# Altium footprint library PCB_国产飞控 led端子 copy copy.PcbLib: 28 footprints (part 1 of 2)
Each footprint in its own frame and in the unit in brackets; x right, y up, seen from the top. Pads: shape width x height; smd on the part's side, far side on the other; paste and mask are expansions set on the pad; w line width, h text height; cw(c..) or ccw(c..) is an arc to the next point about the centre after c.
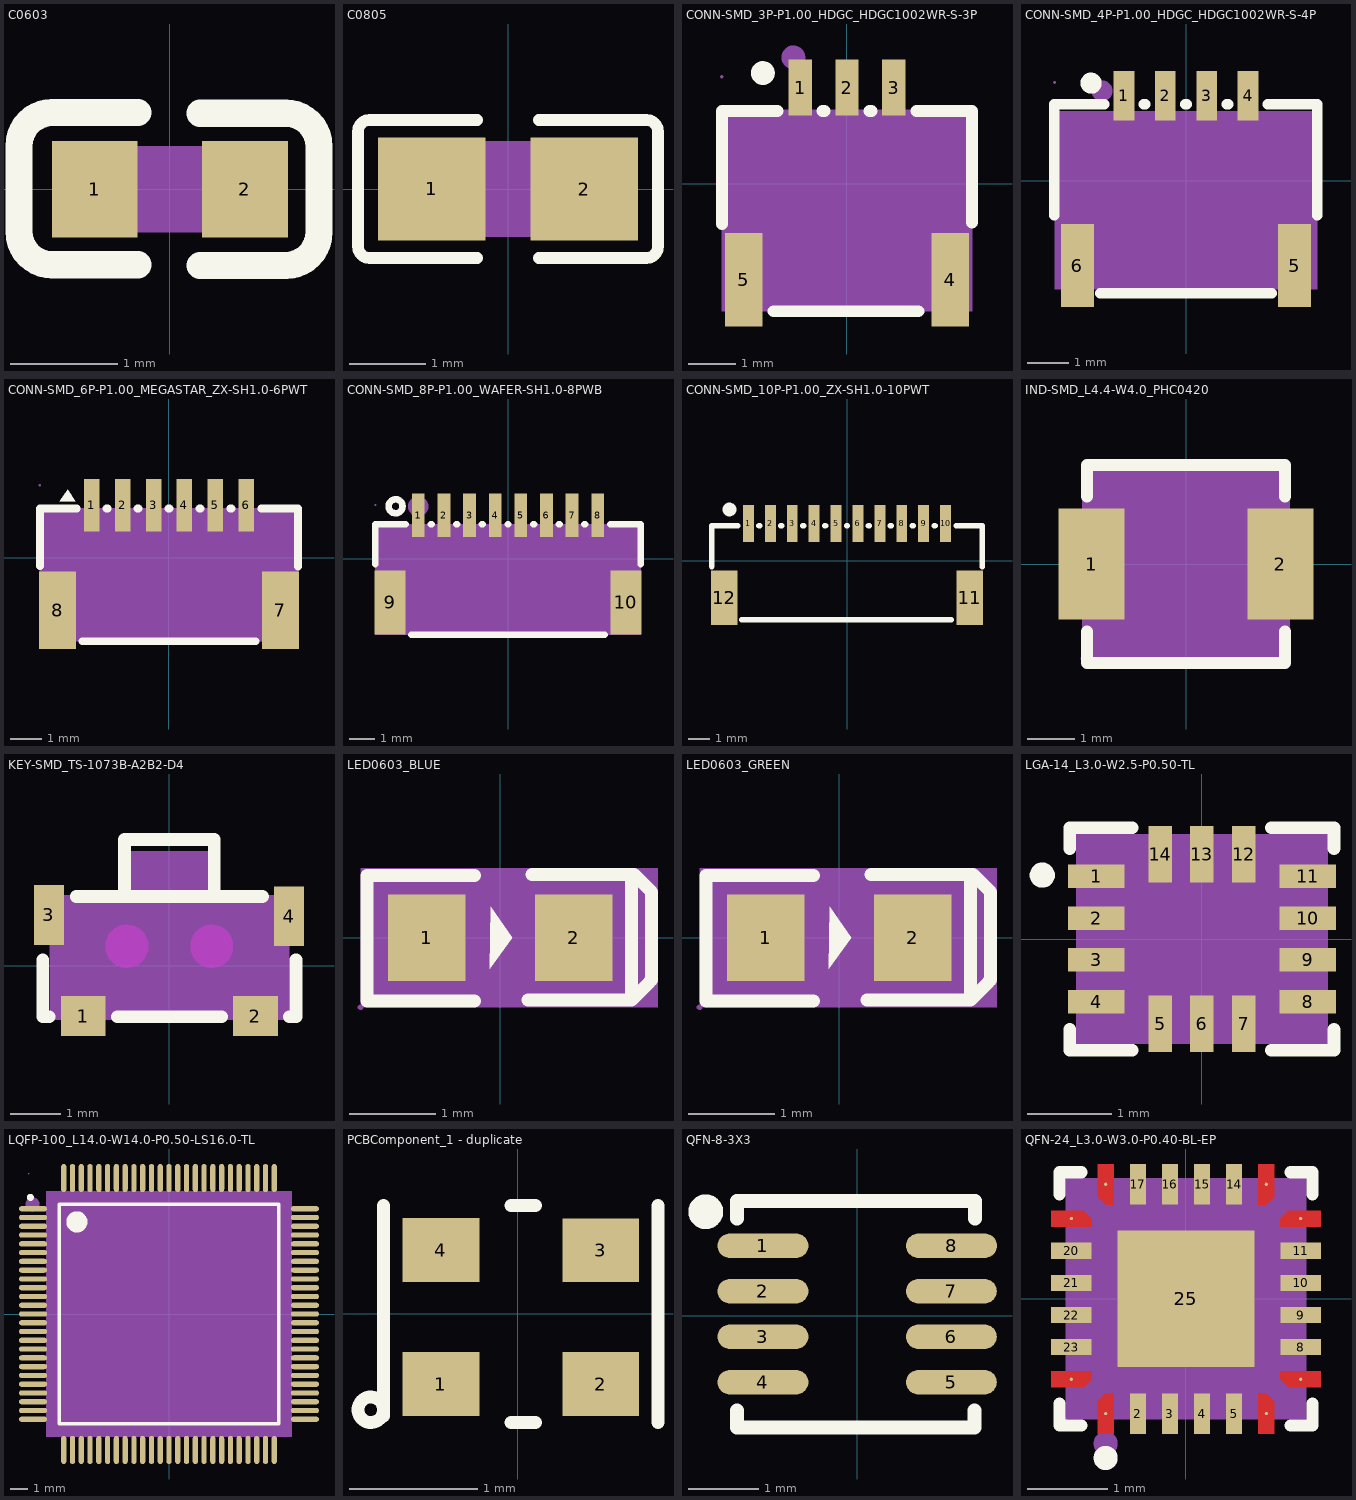
[diagram p0: the footprints below, top view; thin cyan lines are the x and y axes]

## C0603 [mm]
pads (2):
  rect 0.8x0.9 smd paste+0 mask+0.051: 1(-0.7,0) 2(0.7,0)
Top Overlay:
  lines w0.254: -0.296,-0.704 -1.096,-0.704 cw(c-1.096,-0.394) -1.406,-0.394 -1.405,0.406 cw(c-1.096,0.406) -1.096,0.715 -0.296,0.715 ; 0.28,-0.71 1.08,-0.71 ccw(c1.08,-0.4) 1.39,-0.4 1.39,0.4 ccw(c1.08,0.4) 1.08,0.71 0.28,0.71
Mechanical 9:
  region: -0.8,-0.4 -0.8,0.4 0.8,0.4 0.8,-0.4
Mechanical 11:
  region: -0.77,-0.4 -0.77,-0.412 -0.788,-0.43 -0.813,-0.43 -0.83,-0.412 -0.83,-0.4 -0.83,-0.388 -0.813,-0.37 -0.788,-0.37 -0.77,-0.388 -0.77,-0.4
Mechanical 12:
  region: -0.8,-0.4 -0.8,0.4 -0.5,0.4 -0.5,-0.4
  region: 0.8,-0.4 0.8,0.4 0.5,0.4 0.5,-0.4

## C0805 [mm]
pads (2):
  rect 1.41x1.35 smd paste-100 mask+0.051: 1(-1,0) 2(1,0)
Top Overlay:
  lines w0.152: -0.401,-0.904 -1.811,-0.904 cw(c-1.811,-0.751) -1.964,-0.751 -1.964,0.751 cw(c-1.811,0.751) -1.811,0.904 -0.401,0.904 ; 0.401,-0.904 1.811,-0.904 ccw(c1.811,-0.751) 1.964,-0.751 1.964,0.751 ccw(c1.811,0.751) 1.811,0.904 0.401,0.904
Top Paste:
  region: 0.475,-0.62 0.475,-0.2 0.92,-0.2 0.92,0.25 0.48,0.25 0.475,0.66 0.525,0.71 1.675,0.71 1.725,0.66 1.725,-0.62 1.675,-0.67 0.525,-0.67
  region: -1.675,-0.62 -1.675,0.66 -1.625,0.71 -0.475,0.71 -0.425,0.66 -0.42,0.25 -0.87,0.25 -0.87,-0.2 -0.43,-0.2 -0.425,-0.62 -0.475,-0.67 -1.625,-0.67
Mechanical 9:
  region: -1,-0.625 -1,0.625 1,0.625 1,-0.625
Mechanical 11:
  region: -1,-0.595 -1.012,-0.595 -1.03,-0.613 -1.03,-0.638 -1.012,-0.655 -1,-0.655 -0.988,-0.655 -0.97,-0.638 -0.97,-0.613 -0.988,-0.595 -1,-0.595
Mechanical 12:
  region: 1,0.625 1,-0.625 0.5,-0.625 0.5,0.625
  region: -1,-0.625 -1,0.625 -0.5,0.625 -0.5,-0.625

## CONN-SMD_3P-P1.00_HDGC_HDGC1002WR-S-3P [mm]
pads (5):
  rect 0.5x1.2 smd paste+0 mask+0.05: 1(-1,2.05) 2(0,2.05) 3(1,2.05)
  rect 0.8x2 smd paste+0 mask+0.05: 4(2.2,-2.05) 5(-2.2,-2.05)
Top Overlay:
  circle w0.254: c-1.794,2.358 r0.127
  lines w0.254: -2.667,-0.862 -2.667,1.551 -1.481,1.551 ; -1.569,-2.722 1.524,-2.722 ; -0.519,1.551 -0.481,1.551 ; 0.481,1.551 0.519,1.551 ; 1.481,1.551 2.667,1.551 2.667,-0.829
Mechanical 5:
  circle w0.254: c-1.143,2.694 r0.127
Mechanical 9:
  region: -2.675,-2.722 -2.675,1.578 2.675,1.578 2.675,-2.722
Mechanical 11:
  region: -2.675,2.248 -2.687,2.248 -2.705,2.265 -2.705,2.29 -2.687,2.308 -2.675,2.308 -2.662,2.308 -2.645,2.29 -2.645,2.265 -2.662,2.248 -2.675,2.248
Mechanical 12:
  region: 0.9,2.278 1.1,2.278 1.1,1.278 0.9,1.278
  region: -0.1,2.278 0.1,2.278 0.1,1.278 -0.1,1.278
  region: -1.1,2.278 -0.9,2.278 -0.9,1.278 -1.1,1.278
  region: 2.05,-1.45 2.35,-1.45 2.35,-2.65 2.05,-2.65
  region: -2.35,-1.45 -2.05,-1.45 -2.05,-2.65 -2.35,-2.65

## CONN-SMD_4P-P1.00_HDGC_HDGC1002WR-S-4P [mm]
pads (6):
  rect 0.5x1.2 smd paste+0 mask+0.05: 1(-1.5,2.05) 2(-0.5,2.05) 3(0.5,2.05) 4(1.5,2.05)
  rect 0.8x2 smd paste+0 mask+0.05: 5(2.625,-2.05) 6(-2.625,-2.05)
Top Overlay:
  circle w0.254: c-2.294,2.358 r0.127
  lines w0.254: -3.183,-0.834 -3.183,1.85 -1.981,1.85 ; -2.069,-2.722 2.069,-2.722 ; -1.019,1.85 -0.981,1.85 ; -0.019,1.85 0.019,1.85 ; 0.981,1.85 1.019,1.85 ; 1.981,1.85 3.167,1.85 3.167,-0.829
Mechanical 5:
  circle w0.254: c-2.03,2.17 r0.127
Mechanical 9:
  region: -3.175,-2.622 -3.175,1.678 3.175,1.678 3.175,-2.622
Mechanical 11:
  region: -3.175,2.408 -3.163,2.408 -3.145,2.391 -3.145,2.366 -3.163,2.348 -3.175,2.348 -3.187,2.348 -3.205,2.366 -3.205,2.391 -3.187,2.408 -3.175,2.408
Mechanical 12:
  region: -2.725,-1.622 -2.525,-1.622 -2.525,-2.622 -2.725,-2.622
  region: 2.525,-1.622 2.725,-1.622 2.725,-2.622 2.525,-2.622
  region: -1.6,2.378 -1.4,2.378 -1.4,1.578 -1.6,1.578
  region: -0.6,2.378 -0.4,2.378 -0.4,1.578 -0.6,1.578
  region: 0.4,2.378 0.6,2.378 0.6,1.578 0.4,1.578
  region: 1.4,2.378 1.6,2.378 1.6,1.578 1.4,1.578

## CONN-SMD_6P-P1.00_MEGASTAR_ZX-SH1.0-6PWT [mm]
pads (8):
  rect 0.5x1.7 smd paste+0 mask+0.05: 1(-2.5,1.7) 2(-1.5,1.7) 3(-0.5,1.7) 4(0.5,1.7) 5(1.5,1.7) 6(2.5,1.7)
  rect 1.2x2.5 smd paste+0 mask+0.05: 7(3.6,-1.7) 8(-3.6,-1.7)
Top Overlay:
  region: -3.278,2.208 -3.532,1.827 -3.024,1.827
  lines w0.254: -4.175,-0.269 -4.175,1.6 -2.981,1.6 ; -2.8,-2.7 2.8,-2.7 ; -2.019,1.6 -1.981,1.6 ; -1.019,1.6 -0.981,1.6 ; -0.019,1.6 0.019,1.6 ; 0.981,1.6 1.019,1.6 ; 1.981,1.6 2.019,1.6 ; 2.981,1.6 4.175,1.6 ; 4.175,-0.282 4.175,1.573
Mechanical 5:
  region: -3.278,2.208 -3.532,1.827 -3.024,1.827
Mechanical 9:
  region: -4.175,-2.7 -4.175,1.6 4.175,1.6 4.175,-2.7
Mechanical 11:
  region: -4.205,2.35 -4.205,2.338 -4.187,2.32 -4.163,2.32 -4.145,2.338 -4.145,2.35 -4.145,2.362 -4.163,2.38 -4.187,2.38 -4.205,2.362 -4.205,2.35
Mechanical 12:
  region: 3.5,-1.2 3.7,-1.2 3.7,-2.7 3.5,-2.7
  region: -3.7,-1.2 -3.5,-1.2 -3.5,-2.7 -3.7,-2.7
  region: -0.6,2.35 -0.4,2.35 -0.4,1.45 -0.6,1.45
  region: -1.6,2.35 -1.4,2.35 -1.4,1.45 -1.6,1.45
  region: -2.6,2.35 -2.4,2.35 -2.4,1.45 -2.6,1.45
  region: 0.4,2.35 0.6,2.35 0.6,1.45 0.4,1.45
  region: 1.4,2.35 1.6,2.35 1.6,1.45 1.4,1.45
  region: 2.4,2.35 2.6,2.35 2.6,1.45 2.4,1.45

## CONN-SMD_8P-P1.00_WAFER-SH1.0-8PWB [mm]
pads (10):
  rect 0.5x1.7 smd paste+0 mask+0.05: 1(-3.5,1.7) 2(-2.5,1.7) 3(-1.5,1.7) 4(-0.5,1.7) 5(0.5,1.7) 6(1.5,1.7) 7(2.5,1.7) 8(3.5,1.7)
  rect 1.2x2.5 smd paste+0 mask+0.05: 9(-4.6,-1.7) 10(4.6,-1.7)
Top Overlay:
  circle w0.254: c-4.385,2.05 r0.272
  lines w0.254: -5.175,-0.219 -5.175,1.35 -3.981,1.35 ; -3.769,-2.95 3.769,-2.95 ; -3.019,1.35 -2.981,1.35 ; -2.019,1.35 -1.981,1.35 ; -1.019,1.35 -0.981,1.35 ; -0.019,1.35 0.019,1.35 ; 0.981,1.35 1.019,1.35 ; 1.981,1.35 2.019,1.35 ; 2.981,1.35 3.019,1.35 ; 3.981,1.35 5.175,1.35 5.175,-0.219
Mechanical 5:
  circle w0.4: c-3.505,2.05 r0.2
Mechanical 9:
  region: -5.175,-2.95 -5.175,1.35 5.175,1.35 5.175,-2.95
Mechanical 11:
  region: -5.145,2.1 -5.145,2.112 -5.162,2.13 -5.187,2.13 -5.205,2.112 -5.205,2.1 -5.205,2.088 -5.187,2.07 -5.162,2.07 -5.145,2.088 -5.145,2.1
Mechanical 12:
  region: 4.5,-0.8 4.7,-0.8 4.7,-2.6 4.5,-2.6
  region: -4.7,-0.8 -4.5,-0.8 -4.5,-2.6 -4.7,-2.6
  region: -3.6,2.1 -3.4,2.1 -3.4,1.3 -3.6,1.3
  region: -2.6,2.1 -2.4,2.1 -2.4,1.3 -2.6,1.3
  region: -1.6,2.1 -1.4,2.1 -1.4,1.3 -1.6,1.3
  region: -0.6,2.1 -0.4,2.1 -0.4,1.3 -0.6,1.3
  region: 0.4,2.1 0.6,2.1 0.6,1.3 0.4,1.3
  region: 1.4,2.1 1.6,2.1 1.6,1.3 1.4,1.3
  region: 2.4,2.1 2.6,2.1 2.6,1.3 2.4,1.3
  region: 3.4,2.1 3.6,2.1 3.6,1.3 3.4,1.3

## CONN-SMD_10P-P1.00_ZX-SH1.0-10PWT [mm]
pads (12):
  rect 0.5x1.7 smd paste+0 mask+0.05: 1(-4.5,1.7) 2(-3.5,1.7) 3(-2.5,1.7) 4(-1.5,1.7) 5(-0.5,1.7) 6(0.5,1.7) 7(1.5,1.7) 8(2.5,1.7) 9(3.5,1.7) 10(4.5,1.7)
  rect 1.2x2.5 smd paste+0 mask+0.05: 11(5.6,-1.7) 12(-5.6,-1.7)
Top Overlay:
  region: -5.681,2.335 -5.681,2.396 -5.634,2.509 -5.548,2.595 -5.435,2.642 -5.313,2.642 -5.2,2.595 -5.114,2.509 -5.067,2.396 -5.067,2.335 -5.067,2.274 -5.114,2.161 -5.2,2.075 -5.313,2.028 -5.435,2.028 -5.548,2.075 -5.634,2.161 -5.681,2.274 -5.681,2.335
  lines w0.254: -6.175,-0.269 -6.175,1.6 -4.981,1.6 ; -4.8,-2.7 2.8,-2.7 4.769,-2.7 ; -4.019,1.6 -3.981,1.6 ; -3.019,1.6 -2.981,1.6 ; -2.019,1.6 -1.981,1.6 ; -1.019,1.6 -0.981,1.6 ; -0.019,1.6 0.019,1.6 ; 0.981,1.6 1.019,1.6 ; 1.981,1.6 2.019,1.6 ; 2.981,1.6 3.019,1.6 ; 3.981,1.6 4.019,1.6 ; 4.981,1.6 6.175,1.6 ; 6.175,-0.281 6.175,1.573

## IND-SMD_L4.4-W4.0_PHC0420 [mm]
pads (2):
  rect 1.4x2.35 smd paste+0 mask+0.051: 1(-2,0) 2(2,0)
Top Overlay:
  lines w0.254: -2.1,-1.431 -2.1,-2.1 2.1,-2.1 2.1,-1.431 ; -2.1,1.431 -2.1,2.1 2.1,2.1 2.1,1.431
Mechanical 9:
  region: -2.2,-2 -2.2,2 2.2,2 2.2,-2
Mechanical 11:
  region: -2.2,-2.03 -2.187,-2.03 -2.17,-2.012 -2.17,-1.988 -2.187,-1.97 -2.2,-1.97 -2.212,-1.97 -2.23,-1.988 -2.23,-2.012 -2.212,-2.03 -2.2,-2.03
Mechanical 12:
  region: 1.44,1 2.2,1 2.2,-1 1.44,-1
  region: -2.2,1 -1.44,1 -1.44,-1 -2.2,-1

## KEY-SMD_TS-1073B-A2B2-D4 [mm]
pads (4):
  rect 0.9x0.8 smd paste+0 mask+0.051: 1(-1.718,-1.013) 2(1.732,-1.013)
  rect 0.6x1.2 smd paste+0 mask+0.051: 3(-2.407,1.013) 4(2.407,0.987)
Top Overlay:
  lines w0.254: -2.533,0.114 -2.533,-1.029 -2.399,-1.029 ; -1.862,1.384 1.876,1.384 ; -1.037,-1.029 1.051,-1.029 ; -0.893,1.403 -0.893,2.527 0.907,2.527 0.907,1.403 ; 2.413,-1.029 2.547,-1.029 2.547,0.114
Keep-Out Layer:
  circle w0.003: c0.857,0.387 r0.425
  circle w0.003: c-0.843,0.387 r0.425
  region: 0.857,0.812 0.772,0.812 0.616,0.747 0.496,0.627 0.432,0.471 0.432,0.302 0.496,0.146 0.616,0.026 0.772,-0.038 0.857,-0.038 0.941,-0.038 1.097,0.026 1.217,0.146 1.282,0.302 1.282,0.471 1.217,0.627 1.097,0.747 0.941,0.812 0.857,0.812
  region: 0.857,0.812 0.772,0.812 0.616,0.747 0.496,0.627 0.432,0.471 0.432,0.302 0.496,0.146 0.616,0.026 0.772,-0.038 0.857,-0.038 0.941,-0.038 1.097,0.026 1.217,0.146 1.282,0.302 1.282,0.471 1.217,0.627 1.097,0.747 0.941,0.812 0.857,0.812
  region: -0.843,0.812 -0.928,0.812 -1.084,0.747 -1.204,0.627 -1.268,0.471 -1.268,0.302 -1.204,0.146 -1.084,0.026 -0.928,-0.038 -0.843,-0.038 -0.759,-0.038 -0.603,0.026 -0.483,0.146 -0.418,0.302 -0.418,0.471 -0.483,0.627 -0.603,0.747 -0.759,0.812 -0.843,0.812
  region: -0.843,0.812 -0.928,0.812 -1.084,0.747 -1.204,0.627 -1.268,0.471 -1.268,0.302 -1.204,0.146 -1.084,0.026 -0.928,-0.038 -0.843,-0.038 -0.759,-0.038 -0.603,0.026 -0.483,0.146 -0.418,0.302 -0.418,0.471 -0.483,0.627 -0.603,0.747 -0.759,0.812 -0.843,0.812
Mechanical 1:
  circle w0.003: c0.857,0.387 r0.425
  circle w0.003: c-0.843,0.387 r0.425
Mechanical 5:
  region: -0.893,2.287 0.907,2.287 0.907,1.437 -0.893,1.437
Mechanical 9:
  region: -2.393,-1.087 -2.393,1.413 -0.893,1.413 -0.893,2.287 0.007,2.287 0.907,2.287 0.907,1.413 2.407,1.413 2.407,-1.087
Mechanical 11:
  region: -2.393,-1.084 -2.406,-1.084 -2.423,-1.101 -2.423,-1.126 -2.406,-1.144 -2.393,-1.144 -2.381,-1.144 -2.363,-1.126 -2.363,-1.101 -2.381,-1.084 -2.393,-1.084
Mechanical 12:
  region: 2.107,1.387 2.407,1.387 2.407,0.587 2.107,0.587
  region: -2.393,1.413 -2.093,1.413 -2.093,0.613 -2.393,0.613
  region: 1.532,-1.113 1.532,-0.313 1.932,-0.313 1.932,-1.113
  region: -1.918,-1.113 -1.918,-0.313 -1.518,-0.313 -1.518,-1.113

## LED0603_BLUE [mm]
pads (2):
  rect 0.9x1 smd paste+0 mask+0.051: 1(-0.85,0) 2(0.85,0)
Top Overlay:
  region: -0.11,0.36 -0.12,-0.36 0.14,0
  lines w0.15: -0.3,-0.73 -1.54,-0.73 -1.54,0.72 -0.3,0.72 ; 0.32,-0.72 1.52,-0.72 ; 0.37,0.73 1.52,0.73 ; 1.52,-0.72 1.72,-0.52 1.75,-0.49 1.75,0.53 1.55,0.73 1.52,0.73 ; 1.52,-0.72 1.52,0.73
Mechanical 9:
  region: -1.615,0.805 1.825,0.805 1.825,-0.805 -1.615,-0.805
Mechanical 11:
  region: -1.585,-0.805 -1.585,-0.817 -1.603,-0.835 -1.628,-0.835 -1.645,-0.817 -1.645,-0.805 -1.645,-0.793 -1.628,-0.775 -1.603,-0.775 -1.585,-0.793 -1.585,-0.805
Mechanical 12:
  region: -0.4,0.5 -0.4,-0.5 -1.3,-0.5 -1.3,0.5
  region: 1.3,0.5 1.3,-0.5 0.4,-0.5 0.4,0.5

## LED0603_GREEN [mm]
pads (2):
  rect 0.9x1 smd paste+0 mask+0.051: 1(-0.85,0) 2(0.85,0)
Top Overlay:
  region: -0.11,0.36 -0.12,-0.36 0.14,0
  lines w0.15: -0.3,-0.73 -1.54,-0.73 -1.54,0.72 -0.3,0.72 ; 0.32,-0.72 1.52,-0.72 ; 0.37,0.73 1.52,0.73 ; 1.52,-0.72 1.72,-0.52 1.75,-0.49 1.75,0.53 1.55,0.73 1.52,0.73 ; 1.52,-0.72 1.52,0.73
Mechanical 9:
  region: -1.615,0.805 1.825,0.805 1.825,-0.805 -1.615,-0.805
Mechanical 11:
  region: -1.585,-0.805 -1.585,-0.817 -1.603,-0.835 -1.628,-0.835 -1.645,-0.817 -1.645,-0.805 -1.645,-0.793 -1.628,-0.775 -1.603,-0.775 -1.585,-0.793 -1.585,-0.805
Mechanical 12:
  region: -0.4,0.5 -0.4,-0.5 -1.3,-0.5 -1.3,0.5
  region: 1.3,0.5 1.3,-0.5 0.4,-0.5 0.4,0.5

## LGA-14_L3.0-W2.5-P0.50-TL [mm]
pads (14):
  rect 0.675x0.28 smd paste+0 mask+0.051: 1(-1.262,0.75) 2(-1.262,0.25) 3(-1.262,-0.25) 4(-1.262,-0.75) 8(1.262,-0.75) 9(1.262,-0.25) 10(1.262,0.25) 11(1.262,0.75)
  rect 0.28x0.675 smd paste+0 mask+0.051: 5(-0.5,-1.012) 6(0,-1.012) 7(0.5,-1.012) 12(0.5,1.012) 13(0,1.012) 14(-0.5,1.012)
Top Overlay:
  circle w0.15: c-1.905,0.762 r0.075
  lines w0.152: -1.576,-1.08 -1.576,-1.326 -0.831,-1.326 ; -1.576,1.08 -1.576,1.326 -0.831,1.326 ; 0.831,-1.326 1.576,-1.326 1.576,-1.08 ; 0.831,1.326 1.576,1.326 1.576,1.08
Mechanical 5:
  circle w0.15: c-1.397,0.762 r0.075
Mechanical 9:
  region: -1.5,1.25 1.5,1.25 1.5,-1.25 -1.5,-1.25
Mechanical 11:
  region: -1.53,1.25 -1.53,1.238 -1.512,1.22 -1.487,1.22 -1.47,1.238 -1.47,1.25 -1.47,1.262 -1.487,1.28 -1.512,1.28 -1.53,1.262 -1.53,1.25
Mechanical 12:
  region: -1.4,0.875 -0.925,0.875 -0.925,0.625 -1.4,0.625
  region: -1.4,0.375 -0.925,0.375 -0.925,0.125 -1.4,0.125
  region: -1.4,-0.125 -0.925,-0.125 -0.925,-0.375 -1.4,-0.375
  region: -1.4,-0.625 -0.925,-0.625 -0.925,-0.875 -1.4,-0.875
  region: -0.625,-0.675 -0.375,-0.675 -0.375,-1.15 -0.625,-1.15
  region: -0.125,-0.675 0.125,-0.675 0.125,-1.15 -0.125,-1.15
  region: 0.375,-0.675 0.625,-0.675 0.625,-1.15 0.375,-1.15
  region: 0.925,-0.625 1.4,-0.625 1.4,-0.875 0.925,-0.875
  region: 0.925,-0.125 1.4,-0.125 1.4,-0.375 0.925,-0.375
  region: 0.925,0.375 1.4,0.375 1.4,0.125 0.925,0.125
  region: 0.925,0.875 1.4,0.875 1.4,0.625 0.925,0.625
  region: 0.375,1.15 0.625,1.15 0.625,0.675 0.375,0.675
  region: -0.125,1.15 0.125,1.15 0.125,0.675 -0.125,0.675
  region: -0.625,1.15 -0.375,1.15 -0.375,0.675 -0.625,0.675

## LQFP-100_L14.0-W14.0-P0.50-LS16.0-TL [mm]
pads (100):
  oval 1.6x0.3 smd paste+0 mask+0.051: 1(-7.75,6) 2(-7.75,5.5) 3(-7.75,5) 4(-7.75,4.5) 5(-7.75,4) 6(-7.75,3.5) 7(-7.75,3) 8(-7.75,2.5) 9(-7.75,2) 10(-7.75,1.5) 11(-7.75,1) 12(-7.75,0.5) 13(-7.75,0) 14(-7.75,-0.5) 15(-7.75,-1) 16(-7.75,-1.5) 17(-7.75,-2) 18(-7.75,-2.5) 19(-7.75,-3) 20(-7.75,-3.5) 21(-7.75,-4) 22(-7.75,-4.5) 23(-7.75,-5) 24(-7.75,-5.5) 25(-7.75,-6) 51(7.75,-6) 52(7.75,-5.5) 53(7.75,-5) 54(7.75,-4.5) 55(7.75,-4) 56(7.75,-3.5) 57(7.75,-3) 58(7.75,-2.5) 59(7.75,-2) 60(7.75,-1.5) 61(7.75,-1) 62(7.75,-0.5) 63(7.75,0) 64(7.75,0.5) 65(7.75,1) 66(7.75,1.5) 67(7.75,2) 68(7.75,2.5) 69(7.75,3) 70(7.75,3.5) 71(7.75,4) 72(7.75,4.5) 73(7.75,5) 74(7.75,5.5) 75(7.75,6)
  oval 0.3x1.6 smd paste+0 mask+0.051: 26(-6,-7.75) 27(-5.5,-7.75) 28(-5,-7.75) 29(-4.5,-7.75) 30(-4,-7.75) 31(-3.5,-7.75) 32(-3,-7.75) 33(-2.5,-7.75) 34(-2,-7.75) 35(-1.5,-7.75) 36(-1,-7.75) 37(-0.5,-7.75) 38(0,-7.75) 39(0.5,-7.75) 40(1,-7.75) 41(1.5,-7.75) 42(2,-7.75) 43(2.5,-7.75) 44(3,-7.75) 45(3.5,-7.75) 46(4,-7.75) 47(4.5,-7.75) 48(5,-7.75) 49(5.5,-7.75) 50(6,-7.75) 76(6,7.75) 77(5.5,7.75) 78(5,7.75) 79(4.5,7.75) 80(4,7.75) 81(3.5,7.75) 82(3,7.75) 83(2.5,7.75) 84(2,7.75) 85(1.5,7.75) 86(1,7.75) 87(0.5,7.75) 88(0,7.75) 89(-0.5,7.75) 90(-1,7.75) 91(-1.5,7.75) 92(-2,7.75) 93(-2.5,7.75) 94(-3,7.75) 95(-3.5,7.75) 96(-4,7.75) 97(-4.5,7.75) 98(-5,7.75) 99(-5.5,7.75) 100(-6,7.75)
Top Overlay:
  lines w0.2: -7.8,6.648 cw(c-7.9,6.648) -7.8,6.649 ; -6.25,-6.25 6.25,-6.25 6.25,6.25 -6.25,6.25 -6.25,-6.25
  lines w0.6: -4.95,5.245 cw(c-5.25,5.248) -4.95,5.25
Mechanical 5:
  circle w0.4: c-7.78,6.25 r0.2
Mechanical 9:
  region: -7,7 7,7 7,-7 -7,-7
Mechanical 10:
  drawing of 100 lines, arcs and shapes, not listed
Mechanical 11:
  region: -7.97,8 -7.97,7.988 -7.988,7.97 -8.012,7.97 -8.03,7.988 -8.03,8 -8.03,8.012 -8.012,8.03 -7.988,8.03 -7.97,8.012 -7.97,8
Mechanical 12:
  drawing of 100 lines, arcs and shapes, not listed

## PCBComponent_1 - duplicate [mm]
pads (4):
  rect 0.6x0.5 smd paste+0 mask+0.102: 1(-0.6,-0.55) 2(0.65,-0.55) 3(0.65,0.5) 4(-0.6,0.5)
Top Overlay:
  circle w0.1: c-1.15,-0.75 r0.1
  lines w0.102: -1.05,-0.8 -1.05,0.85 ; -0.05,-0.85 0.14,-0.85 ; -0.05,0.85 0.14,0.85 ; 1.1,-0.85 1.1,0.85

## QFN-8-3X3 [mm]
pads (8):
  oval 1.3x0.35 smd paste+0 mask+0.051: 1(-1.349,1.001) 2(-1.349,0.351) 3(-1.349,-0.3) 4(-1.349,-0.95) 5(1.346,-0.95) 6(1.346,-0.3) 7(1.346,0.351) 8(1.349,1.001)
Top Overlay:
  lines w0.2: -1.72,-1.352 -1.72,-1.602 1.68,-1.602 1.68,-1.352 ; -1.717,1.388 -1.717,1.638 1.683,1.638 1.683,1.388
  lines w0.25: -2.041,1.485 cw(c-2.166,1.487) -2.041,1.488

## QFN-24_L3.0-W3.0-P0.40-BL-EP [mm]
pads (25):
  round 0.04 smd: 1(-1,-1.428) 6(1,-1.428) 7(1.428,-1) 12(1.428,1) 13(1,1.428) 18(-1,1.428) 19(-1.428,1) 24(-1.428,-1)
  rect 0.2x0.505 smd paste-100 mask+0.051: 2(-0.6,-1.428) 3(-0.2,-1.428) 4(0.2,-1.428) 5(0.6,-1.428) 14(0.6,1.428) 15(0.2,1.428) 16(-0.2,1.428) 17(-0.6,1.428)
  rect 0.505x0.2 smd paste-100 mask+0.051: 8(1.428,-0.6) 9(1.428,-0.2) 10(1.428,0.2) 11(1.428,0.6) 20(-1.428,0.6) 21(-1.428,0.2) 22(-1.428,-0.2) 23(-1.428,-0.6)
  rect 1.7x1.7 smd paste-100 mask+0.051: 25(0,0)
Top Layer:
  region: -1.68,1.1 -1.274,1.1 -1.174,1 -1.175,0.9 -1.68,0.9
  region: 1.1,-1.68 0.9,-1.68 0.9,-1.175 1,-1.175 1.1,-1.275
  region: -1.1,-1.68 -0.9,-1.68 -0.9,-1.175 -1,-1.174 -1.1,-1.275
  region: 1.1,1.68 0.9,1.68 0.9,1.175 1,1.174 1.1,1.274
  region: 1.68,1.1 1.274,1.1 1.174,1 1.175,0.9 1.68,0.9
  region: 1.68,-1.1 1.275,-1.1 1.175,-1 1.175,-0.9 1.68,-0.9
  region: -1.68,-1.1 -1.274,-1.1 -1.174,-1 -1.175,-0.9 -1.68,-0.9
  region: -1.1,1.68 -0.9,1.68 -0.9,1.175 -1,1.174 -1.1,1.274
Top Overlay:
  circle w0.15: c-1,-1.98 r0.075
  lines w0.152: -1.576,-1.303 -1.576,-1.576 -1.303,-1.576 ; -1.576,1.303 -1.576,1.576 -1.303,1.576 ; 1.303,-1.576 1.576,-1.576 1.576,-1.303 ; 1.303,1.576 1.576,1.576 1.576,1.303
Top Paste:
  region: -0.72,0.72 0.72,0.72 0.72,-0.72 -0.72,-0.72
  region: -0.1,-1.68 -0.1,-1.175 -0.3,-1.175 -0.3,-1.68
  region: 0.3,-1.68 0.3,-1.175 0.1,-1.175 0.1,-1.68
  region: -0.7,-1.175 -0.7,-1.68 -0.5,-1.68 -0.5,-1.175
  region: 0.7,-1.68 0.7,-1.175 0.5,-1.175 0.5,-1.68
  region: 1,-1.175 0.9,-1.175 0.9,-1.68 1.1,-1.68 1.1,-1.275
  region: -0.9,-1.175 -1,-1.174 -1.1,-1.275 -1.1,-1.68 -0.9,-1.68
  region: 1.68,-1.1 1.68,-0.9 1.175,-0.9 1.175,-1 1.275,-1.1
  region: -1.68,-0.9 -1.68,-1.1 -1.274,-1.1 -1.174,-1 -1.175,-0.9
  region: 1.68,-0.7 1.68,-0.5 1.175,-0.5 1.175,-0.7
  region: -1.68,-0.5 -1.68,-0.7 -1.175,-0.7 -1.175,-0.5
  region: 1.68,-0.3 1.68,-0.1 1.175,-0.1 1.175,-0.3
  region: -1.68,-0.1 -1.68,-0.3 -1.175,-0.3 -1.175,-0.1
  region: 1.68,0.1 1.68,0.3 1.175,0.3 1.175,0.1
  region: -1.68,0.3 -1.68,0.1 -1.175,0.1 -1.175,0.3
  region: 1.68,0.5 1.68,0.7 1.175,0.7 1.175,0.5
  region: -1.68,0.7 -1.68,0.5 -1.175,0.5 -1.175,0.7
  region: 1.274,1.1 1.174,1 1.175,0.9 1.68,0.9 1.68,1.1
  region: -1.68,1.1 -1.68,0.9 -1.175,0.9 -1.174,1 -1.274,1.1
  region: 1.1,1.274 1.1,1.68 0.9,1.68 0.9,1.175 1,1.174
  region: -0.1,1.175 -0.1,1.68 -0.3,1.68 -0.3,1.175
  region: 0.1,1.68 0.1,1.175 0.3,1.175 0.3,1.68
  region: -0.5,1.175 -0.5,1.68 -0.7,1.68 -0.7,1.175
  region: -0.9,1.175 -0.9,1.68 -1.1,1.68 -1.1,1.274 -1,1.174
  region: 0.5,1.68 0.5,1.175 0.7,1.175 0.7,1.68
Mechanical 5:
  circle w0.15: c-1,-1.8 r0.075
Mechanical 9:
  region: -1.5,-1.5 -1.5,1.5 1.5,1.5 1.5,-1.5
Mechanical 11:
  region: -1.47,-1.5 -1.47,-1.513 -1.487,-1.53 -1.512,-1.53 -1.53,-1.513 -1.53,-1.5 -1.53,-1.488 -1.512,-1.47 -1.487,-1.47 -1.47,-1.488 -1.47,-1.5
Mechanical 12:
  region: -0.85,-0.616 -0.85,0.77 0.85,0.77 0.85,-0.77 -0.696,-0.77
  region: -1.2,-1.1 -1.2,-0.9 -1.5,-0.9 -1.5,-1.1
  region: -1.2,-0.7 -1.2,-0.5 -1.5,-0.5 -1.5,-0.7
  region: -1.2,-0.3 -1.2,-0.1 -1.5,-0.1 -1.5,-0.3
  region: -1.2,0.1 -1.2,0.3 -1.5,0.3 -1.5,0.1
  region: -1.2,0.5 -1.2,0.7 -1.5,0.7 -1.5,0.5
  region: -1.2,0.9 -1.2,1.1 -1.5,1.1 -1.5,0.9
  region: -1.1,1.5 -1.1,1.2 -0.9,1.2 -0.9,1.5
  region: -0.7,1.5 -0.7,1.2 -0.5,1.2 -0.5,1.5
  region: -0.3,1.5 -0.3,1.2 -0.1,1.2 -0.1,1.5
  region: 0.1,1.5 0.1,1.2 0.3,1.2 0.3,1.5
  region: 0.5,1.5 0.5,1.2 0.7,1.2 0.7,1.5
  region: 0.9,1.5 0.9,1.2 1.1,1.2 1.1,1.5
  region: 1.2,0.9 1.2,1.1 1.5,1.1 1.5,0.9
  region: 1.2,0.5 1.2,0.7 1.5,0.7 1.5,0.5
  region: 1.2,0.1 1.2,0.3 1.5,0.3 1.5,0.1
  region: 1.2,-0.3 1.2,-0.1 1.5,-0.1 1.5,-0.3
  region: 1.2,-0.7 1.2,-0.5 1.5,-0.5 1.5,-0.7
  region: 1.2,-1.1 1.2,-0.9 1.5,-0.9 1.5,-1.1
  region: 0.9,-1.5 0.9,-1.2 1.1,-1.2 1.1,-1.5
  region: 0.5,-1.5 0.5,-1.2 0.7,-1.2 0.7,-1.5
  region: 0.1,-1.5 0.1,-1.2 0.3,-1.2 0.3,-1.5
  region: -0.3,-1.5 -0.3,-1.2 -0.1,-1.2 -0.1,-1.5
  region: -0.7,-1.5 -0.7,-1.2 -0.5,-1.2 -0.5,-1.5
  region: -1.1,-1.5 -1.1,-1.2 -0.9,-1.2 -0.9,-1.5